# Altium schematic symbol library Orbtronic.SchLib: 1 symbol
Pins are listed as number, name and electrical type; pins without a type are passive.

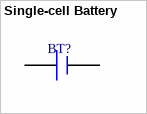
[diagram p0: symbol Single-cell Battery]

## Single-cell Battery
designator BT?
pins: 1 +, 2 -